# EAGLE library part MT8816AF1 (library MT8816AF1)
Analog & Digital Crosspoint ICs Pb Free 8x16 A/log Xpt small pkg Source: Datasheet <http://www.microsemi.com/document-portal/doc_download/127038-mt8816-datasheet-sept11>
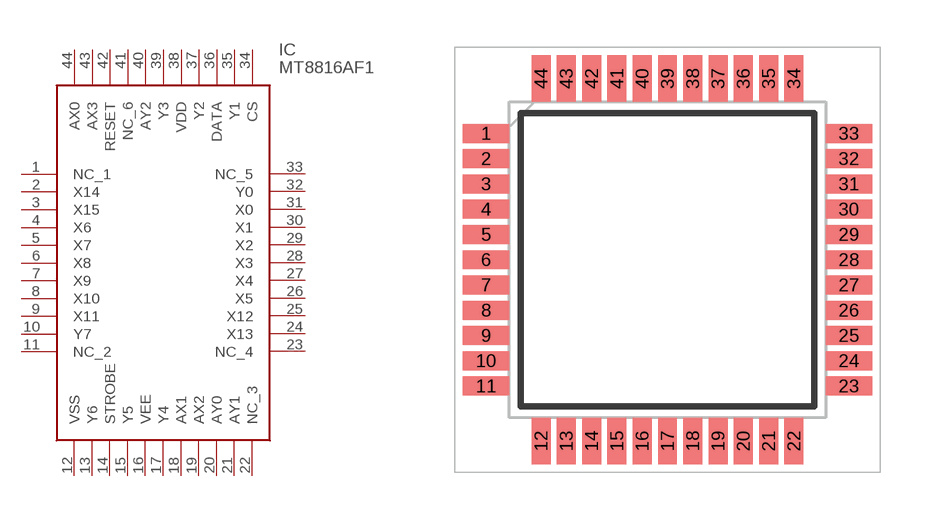
[diagram p0: symbol with the pads of QFP80P1200X1200X120-44N; footprint QFP80P1200X1200X120-44N]

Designator prefix IC

## MT8816AF1 (Description: Analog & Digital Crosspoint ICs Pb Free 8x16 A/log Xpt small pkg; Height: 1.2mm; Manufacturer_Name: Microsemi Corporation; Manufacturer_Part_Number: MT8816AF1)  [QFP80P1200X1200X120-44N]
1  NC_1
2  X14
3  X15
4  X6
5  X7
6  X8
7  X9
8  X10
9  X11
10  Y7
11  NC_2
12  VSS
13  Y6
14  STROBE
15  Y5
16  VEE
17  Y4
18  AX1
19  AX2
20  AY0
21  AY1
22  NC_3
23  NC_4
24  X13
25  X12
26  X5
27  X4
28  X3
29  X2
30  X1
31  X0
32  Y0
33  NC_5
34  CS
35  Y1
36  DATA
37  Y2
38  VDD
39  Y3
40  AY2
41  NC_6
42  RESET
43  AX3
44  AX0

## Footprint QFP80P1200X1200X120-44N (pad centres in mm)
44 Pin TQFP
smd 1.475 x 0.6: 1 -5.738,4; 2 -5.738,3.2; 3 -5.738,2.4; 4 -5.738,1.6; 5 -5.738,0.8; 6 -5.738,0; 7 -5.738,-0.8; 8 -5.738,-1.6; 9 -5.738,-2.4; 10 -5.738,-3.2; 11 -5.738,-4; 23 5.738,-4; 24 5.738,-3.2; 25 5.738,-2.4; 26 5.738,-1.6; 27 5.738,-0.8; 28 5.738,0; 29 5.738,0.8; 30 5.738,1.6; 31 5.738,2.4; 32 5.738,3.2; 33 5.738,4
smd 0.6 x 1.475: 12 -4,-5.738; 13 -3.2,-5.738; 14 -2.4,-5.738; 15 -1.6,-5.738; 16 -0.8,-5.738; 17 0,-5.738; 18 0.8,-5.738; 19 1.6,-5.738; 20 2.4,-5.738; 21 3.2,-5.738; 22 4,-5.738; 34 4,5.738; 35 3.2,5.738; 36 2.4,5.738; 37 1.6,5.738; 38 0.8,5.738; 39 0,5.738; 40 -0.8,5.738; 41 -1.6,5.738; 42 -2.4,5.738; 43 -3.2,5.738; 44 -4,5.738